# Altium schematic symbol library CUBIC_FC.SchLib: 143 symbols (part 3 of 8)
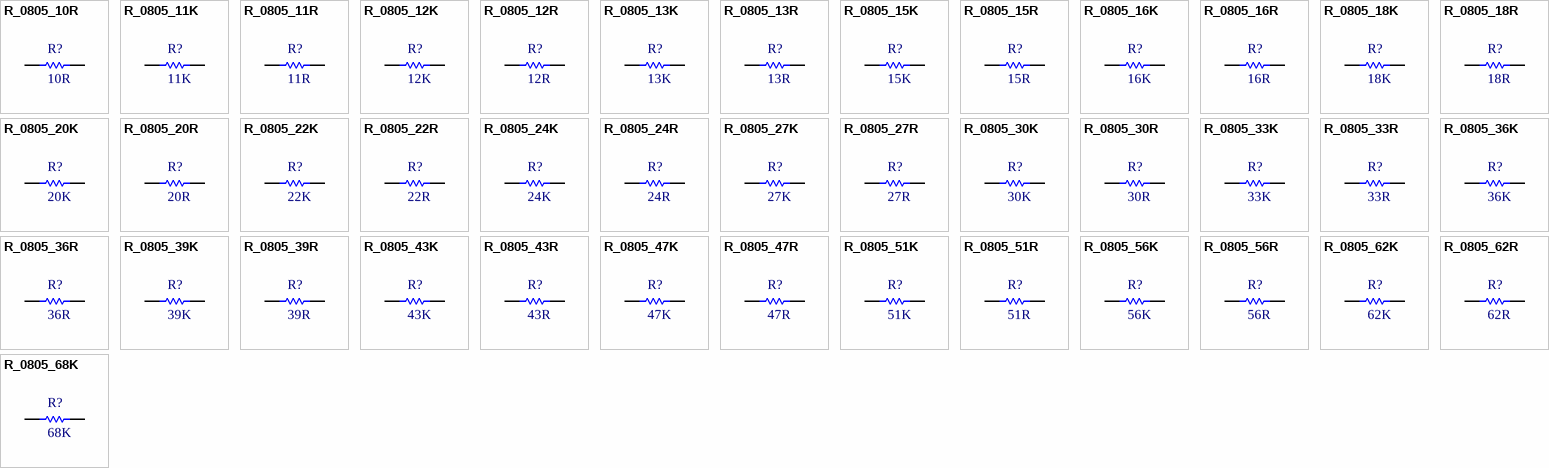
[diagram p5: symbols R_0805_10R to R_0805_68K]

## R_0805_12K
designator R?, comment 12K
Fixed Resistor, Metal Glaze/thick Film, 0.125W, 12000ohm, 150V, 1% +/-Tol, 100ppm/Cel, Surface Mount, 0805; Manufacturer: Panasonic; Manufacturer Part Number: ERJ-6ENF1202V; Power: 125mW; Rated Temperature: 70°C; Value: 12kR; Temperature Coefficient: 100ppm/°C; Package Height: 0.6mm; Package Length: 2mm; Package Width: 1.25mm; Reference Standard: AEC-Q200; Supplier: Digikey; Supplier Part Number: P12.0KCCT-ND; RoHS: Yes; Category: Chip SMD Resistors; Stock: 72058; Pricing: 1=0.11, 10=0.053, 50=0.0344, 100=0.0292, 500=0.02058, 1000=0.01792 (USD); Mounting Technology: Surface Mount; Pins: 2; Package Shape: Rectangular; Case/Package: 0805; Terminal Finish: Nickel; Min Operating Temperature: -55°C; Max Operating Temperature: 155°C; Tolerance: 1%; JESD-609 Code: e3; Resistor Type: FIXED RESISTOR; Construction: Rectangular; Package Style: SMTMeter; Packaging: Tape and Reel; Technology: METAL GLAZE/THICK FILM; Termination: Wraparound; Working Voltage: 150V; Reach SVHC Compliant: Yes; RoHS Compliant: Yes; ComponentLink1URL: https://datasheet.ciiva.com:443/pdfs/VipMasterIC/IC/PANA/PANA-S-A0009889626/PANA-S-A0009889626-1.pdf?src-supplier=IHS+Markit; ComponentLink1Description: https://datasheet.ciiva.com:443/pdfs/VipMasterIC/IC/PANA/PANA-S-A0009889626/PANA-S-A0009889626-1.pdf?src-supplier=IHS+Markit
footprint R_0805 (Chip Resistor, 2-Leads, Body 2.00x1.25mm, IPC Low Density)
pins: 1, 2

## R_0805_12R
designator R?, comment 12R
Fixed Resistor, Metal Glaze/thick Film, 0.125W, 12ohm, 150V, 1% +/-Tol, 100ppm/Cel, Surface Mount, 0805; Manufacturer: Panasonic; Manufacturer Part Number: ERJ-6ENF12R0V; Power: 125mW; Rated Temperature: 70°C; Temperature Coefficient: 100ppm/°C; Package Height: 0.6mm; Package Length: 2mm; Package Width: 1.25mm; Reference Standard: AEC-Q200; Supplier: Digikey; Supplier Part Number: P12.0CCT-ND; RoHS: Yes; Category: Chip SMD Resistors; Stock: 114876; Pricing: 1=0.11, 10=0.053, 50=0.0344, 100=0.0292, 500=0.02058, 1000=0.01792 (USD); Mounting Technology: Surface Mount; Pins: 2; Package Shape: Rectangular; Case/Package: 0805; Terminal Finish: Nickel; Min Operating Temperature: -55°C; Max Operating Temperature: 155°C; Tolerance: 1%; JESD-609 Code: e3; Resistor Type: FIXED RESISTOR; Construction: Rectangular; Package Style: SMTMeter; Packaging: Tape and Reel; Value: 12R; Technology: METAL GLAZE/THICK FILM; Termination: Wraparound; Working Voltage: 150V; Reach SVHC Compliant: Yes; RoHS Compliant: Yes; ComponentLink1URL: https://datasheet.ciiva.com:443/pdfs/VipMasterIC/IC/PANA/PANA-S-A0009889626/PANA-S-A0009889626-1.pdf?src-supplier=IHS+Markit; ComponentLink1Description: https://datasheet.ciiva.com:443/pdfs/VipMasterIC/IC/PANA/PANA-S-A0009889626/PANA-S-A0009889626-1.pdf?src-supplier=IHS+Markit; ComponentLink2URL: https://datasheet.ciiva.com/6075/aoa0000ce2-6075401.pdf?src-supplier=Farnell; ComponentLink2Description: https://datasheet.ciiva.com/6075/aoa0000ce2-6075401.pdf?src-supplier=Farnell; ComponentLink3URL: https://datasheet.ciiva.com/9193/aoa0000ce2-9193674.pdf?src-supplier=Avnet; ComponentLink3Description: https://datasheet.ciiva.com/9193/aoa0000ce2-9193674.pdf?src-supplier=Avnet; ComponentLink4URL: https://datasheet.ciiva.com/22681/1678782-22681193.pdf?src-supplier=Element14; ComponentLink4Description: https://datasheet.ciiva.com/22681/1678782-22681193.pdf?src-supplier=Element14; ComponentLink5URL: https://datasheet.ciiva.com/28667/426256-28667706.pdf?src-supplier=Element14; ComponentLink5Description: https://datasheet.ciiva.com/28667/426256-28667706.pdf?src-supplier=Element14; ComponentLink6URL: https://datasheet.ciiva.com/7891/aoa0000ce2-7891343.pdf?src-supplier=Element14; ComponentLink6Description: https://datasheet.ciiva.com/7891/aoa0000ce2-7891343.pdf?src-supplier=Element14
footprint R_0805 (Chip Resistor, 2-Leads, Body 2.00x1.25mm, IPC Low Density)
pins: 1, 2

## R_0805_13K
designator R?, comment 13K
Fixed Resistor, Metal Glaze/thick Film, 0.125W, 13000ohm, 150V, 1% +/-Tol, 100ppm/Cel, Surface Mount, 0805; Manufacturer: Panasonic; Manufacturer Part Number: ERJ-6ENF1302V; Power: 125mW; Rated Temperature: 70°C; Value: 13kR; Temperature Coefficient: 100ppm/°C; Package Height: 0.6mm; Package Length: 2mm; Package Width: 1.25mm; Reference Standard: AEC-Q200; Supplier: Digikey; Supplier Part Number: P13.0KCCT-ND; RoHS: Yes; Category: Chip SMD Resistors; Stock: 110036; Pricing: 1=0.11, 10=0.053, 50=0.0344, 100=0.0292, 500=0.02058, 1000=0.01792 (USD); Mounting Technology: Surface Mount; Pins: 2; Package Shape: Rectangular; Case/Package: 0805; Terminal Finish: Nickel; Min Operating Temperature: -55°C; Max Operating Temperature: 155°C; Tolerance: 1%; JESD-609 Code: e3; Resistor Type: FIXED RESISTOR; Construction: Rectangular; Package Style: SMTMeter; Packaging: Tape and Reel; Technology: METAL GLAZE/THICK FILM; Termination: Wraparound; Working Voltage: 150V; Reach SVHC Compliant: Yes; RoHS Compliant: Yes; ComponentLink1URL: https://datasheet.ciiva.com:443/pdfs/VipMasterIC/IC/PANA/PANA-S-A0009889626/PANA-S-A0009889626-1.pdf?src-supplier=IHS+Markit; ComponentLink1Description: https://datasheet.ciiva.com:443/pdfs/VipMasterIC/IC/PANA/PANA-S-A0009889626/PANA-S-A0009889626-1.pdf?src-supplier=IHS+Markit; ComponentLink2URL: https://datasheet.ciiva.com/11821/0900766b80f80784-11821523.pdf?src-supplier=Rs; ComponentLink2Description: https://datasheet.ciiva.com/11821/0900766b80f80784-11821523.pdf?src-supplier=Rs; ComponentLink3URL: https://datasheet.ciiva.com/46447/1678782-46447765.pdf?src-supplier=Element14; ComponentLink3Description: https://datasheet.ciiva.com/46447/1678782-46447765.pdf?src-supplier=Element14; ComponentLink4URL: https://datasheet.ciiva.com/30124/aoa0000ce2-30124063.pdf?src-supplier=Onlinecomponents.com; ComponentLink4Description: https://datasheet.ciiva.com/30124/aoa0000ce2-30124063.pdf?src-supplier=Onlinecomponents.com; ComponentLink5URL: https://datasheet.ciiva.com/16774/70260748-16774314.pdf?src-supplier=Allied+Electronics; ComponentLink5Description: https://datasheet.ciiva.com/16774/70260748-16774314.pdf?src-supplier=Allied+Electronics; ComponentLink6URL: https://datasheet.ciiva.com/16777/70260748-16777567.pdf?src-supplier=Allied+Electronics; ComponentLink6Description: https://datasheet.ciiva.com/16777/70260748-16777567.pdf?src-supplier=Allied+Electronics; ComponentLink7URL: https://datasheet.ciiva.com/22681/1678782-22681689.pdf?src-supplier=Element14; ComponentLink7Description: https://datasheet.ciiva.com/22681/1678782-22681689.pdf?src-supplier=Element14
footprint R_0805 (Chip Resistor, 2-Leads, Body 2.00x1.25mm, IPC Low Density)
pins: 1, 2

## R_0805_13R
designator R?, comment 13R
Fixed Resistor, Metal Glaze/thick Film, 0.125W, 130ohm, 150V, 1% +/-Tol, 100ppm/Cel, Surface Mount, 0805; Manufacturer: Panasonic; Manufacturer Part Number: ERJ-6ENF1300V; Power: 125mW; Rated Temperature: 70°C; Value: 130R; Temperature Coefficient: 100ppm/°C; Package Height: 0.6mm; Package Length: 2mm; Package Width: 1.25mm; Reference Standard: AEC-Q200; Supplier: Digikey; Supplier Part Number: P130CCT-ND; RoHS: Yes; Category: Chip SMD Resistors; Stock: 23235; Pricing: 1=0.11, 10=0.053, 50=0.0344, 100=0.0292, 500=0.02058, 1000=0.01792 (USD); Mounting Technology: Surface Mount; Pins: 2; Package Shape: Rectangular; Case/Package: 0805; Terminal Finish: Nickel; Min Operating Temperature: -55°C; Max Operating Temperature: 155°C; Tolerance: 1%; JESD-609 Code: e3; Resistor Type: FIXED RESISTOR; Construction: Rectangular; Package Style: SMTMeter; Packaging: Tape and Reel; Technology: METAL GLAZE/THICK FILM; Termination: Wraparound; Working Voltage: 150V; Reach SVHC Compliant: Yes; RoHS Compliant: Yes; ComponentLink1URL: https://datasheet.ciiva.com:443/pdfs/VipMasterIC/IC/PANA/PANA-S-A0009889626/PANA-S-A0009889626-1.pdf?src-supplier=IHS+Markit; ComponentLink1Description: https://datasheet.ciiva.com:443/pdfs/VipMasterIC/IC/PANA/PANA-S-A0009889626/PANA-S-A0009889626-1.pdf?src-supplier=IHS+Markit; ComponentLink2URL: https://datasheet.ciiva.com/46376/426256-46376990.pdf?src-supplier=Element14; ComponentLink2Description: https://datasheet.ciiva.com/46376/426256-46376990.pdf?src-supplier=Element14; ComponentLink3URL: https://datasheet.ciiva.com/5915/426256-5915335.pdf?src-supplier=Farnell; ComponentLink3Description: https://datasheet.ciiva.com/5915/426256-5915335.pdf?src-supplier=Farnell; ComponentLink4URL: https://datasheet.ciiva.com/28665/1678782-28665420.pdf?src-supplier=Element14; ComponentLink4Description: https://datasheet.ciiva.com/28665/1678782-28665420.pdf?src-supplier=Element14; ComponentLink5URL: https://datasheet.ciiva.com/43460/426256-43460011.pdf?src-supplier=Farnell; ComponentLink5Description: https://datasheet.ciiva.com/43460/426256-43460011.pdf?src-supplier=Farnell; ComponentLink6URL: https://datasheet.ciiva.com/9117/aoa0000ce2-9117421.pdf?src-supplier=Avnet; ComponentLink6Description: https://datasheet.ciiva.com/9117/aoa0000ce2-9117421.pdf?src-supplier=Avnet; ComponentLink7URL: https://datasheet.ciiva.com/16781/70260748-16781621.pdf?src-supplier=Allied+Electronics; ComponentLink7Description: https://datasheet.ciiva.com/16781/70260748-16781621.pdf?src-supplier=Allied+Electronics; ComponentLink8URL: https://datasheet.ciiva.com/30187/aoa0000ce2-30187535.pdf?src-supplier=Onlinecomponents.com; ComponentLink8Description: https://datasheet.ciiva.com/30187/aoa0000ce2-30187535.pdf?src-supplier=Onlinecomponents.com
footprint R_0805 (Chip Resistor, 2-Leads, Body 2.00x1.25mm, IPC Low Density)
pins: 1, 2

## R_0805_15K
designator R?, comment 15K
Fixed Resistor, Metal Glaze/thick Film, 0.125W, 15000ohm, 150V, 1% +/-Tol, 100ppm/Cel, Surface Mount, 0805; Manufacturer: Panasonic; Manufacturer Part Number: ERJ-6ENF1502V; Power: 125mW; Rated Temperature: 70°C; Value: 15kR; Temperature Coefficient: 100ppm/°C; Package Height: 0.6mm; Package Length: 2mm; Package Width: 1.25mm; Reference Standard: AEC-Q200; Supplier: Digikey; Supplier Part Number: P15.0KCCT-ND; RoHS: Yes; Category: Chip SMD Resistors; Stock: 202482; Pricing: 1=0.11, 10=0.053, 50=0.0344, 100=0.0292, 500=0.02058, 1000=0.01792 (USD); Mounting Technology: Surface Mount; Pins: 2; Package Shape: Rectangular; Case/Package: 0805; Terminal Finish: Nickel; Min Operating Temperature: -55°C; Max Operating Temperature: 155°C; Tolerance: 1%; JESD-609 Code: e3; Resistor Type: FIXED RESISTOR; Construction: Rectangular; Package Style: SMTMeter; Packaging: Tape and Reel; Technology: METAL GLAZE/THICK FILM; Termination: Wraparound; Working Voltage: 150V; Reach SVHC Compliant: Yes; RoHS Compliant: Yes; ComponentLink1URL: https://datasheet.ciiva.com:443/pdfs/VipMasterIC/IC/PANA/PANA-S-A0009889626/PANA-S-A0009889626-1.pdf?src-supplier=IHS+Markit; ComponentLink1Description: https://datasheet.ciiva.com:443/pdfs/VipMasterIC/IC/PANA/PANA-S-A0009889626/PANA-S-A0009889626-1.pdf?src-supplier=IHS+Markit; ComponentLink2URL: https://datasheet.ciiva.com/11821/0900766b80f80784-11821538.pdf?src-supplier=Rs; ComponentLink2Description: https://datasheet.ciiva.com/11821/0900766b80f80784-11821538.pdf?src-supplier=Rs; ComponentLink3URL: https://datasheet.ciiva.com/6138/426256-6138184.pdf?src-supplier=Farnell; ComponentLink3Description: https://datasheet.ciiva.com/6138/426256-6138184.pdf?src-supplier=Farnell; ComponentLink4URL: https://datasheet.ciiva.com/27055/1989076-27055738.pdf?src-supplier=Jameco; ComponentLink4Description: https://datasheet.ciiva.com/27055/1989076-27055738.pdf?src-supplier=Jameco; ComponentLink5URL: https://datasheet.ciiva.com/16426/aoa0000ce2-16426213.pdf?src-supplier=Future+Electronics; ComponentLink5Description: https://datasheet.ciiva.com/16426/aoa0000ce2-16426213.pdf?src-supplier=Future+Electronics; ComponentLink6URL: https://datasheet.ciiva.com/16773/70260748-16773989.pdf?src-supplier=Allied+Electronics; ComponentLink6Description: https://datasheet.ciiva.com/16773/70260748-16773989.pdf?src-supplier=Allied+Electronics; ComponentLink7URL: https://datasheet.ciiva.com/22687/1678782-22687078.pdf?src-supplier=Element14; ComponentLink7Description: https://datasheet.ciiva.com/22687/1678782-22687078.pdf?src-supplier=Element14; ComponentLink8URL: https://datasheet.ciiva.com/8079/426256-8079611.pdf?src-supplier=Element14; ComponentLink8Description: https://datasheet.ciiva.com/8079/426256-8079611.pdf?src-supplier=Element14; ComponentLink9URL: https://datasheet.ciiva.com/22668/1678782-22668330.pdf?src-supplier=Element14; ComponentLink9Description: https://datasheet.ciiva.com/22668/1678782-22668330.pdf?src-supplier=Element14
footprint R_0805 (Chip Resistor, 2-Leads, Body 2.00x1.25mm, IPC Low Density)
pins: 1, 2

## R_0805_15R
designator R?, comment 15R
Fixed Resistor, Metal Glaze/thick Film, 0.125W, 15ohm, 150V, 1% +/-Tol, 100ppm/Cel, Surface Mount, 0805; Manufacturer: Panasonic; Manufacturer Part Number: ERJ-6ENF15R0V; Power: 125mW; Rated Temperature: 70°C; Temperature Coefficient: 100ppm/°C; Package Height: 0.6mm; Package Length: 2mm; Package Width: 1.25mm; Reference Standard: AEC-Q200; Supplier: Digikey; Supplier Part Number: P15.0CCT-ND; RoHS: Yes; Category: Chip SMD Resistors; Stock: 150596; Pricing: 1=0.11, 10=0.053, 50=0.0344, 100=0.0292, 500=0.02058, 1000=0.01792 (USD); Mounting Technology: Surface Mount; Pins: 2; Package Shape: Rectangular; Case/Package: 0805; Terminal Finish: Nickel; Min Operating Temperature: -55°C; Max Operating Temperature: 155°C; Tolerance: 1%; JESD-609 Code: e3; Resistor Type: FIXED RESISTOR; Construction: Rectangular; Package Style: SMTMeter; Packaging: Tape and Reel; Value: 15R; Technology: METAL GLAZE/THICK FILM; Termination: Wraparound; Working Voltage: 150V; Reach SVHC Compliant: Yes; RoHS Compliant: Yes; ComponentLink1URL: https://datasheet.ciiva.com:443/pdfs/VipMasterIC/IC/PANA/PANA-S-A0009889626/PANA-S-A0009889626-1.pdf?src-supplier=IHS+Markit; ComponentLink1Description: https://datasheet.ciiva.com:443/pdfs/VipMasterIC/IC/PANA/PANA-S-A0009889626/PANA-S-A0009889626-1.pdf?src-supplier=IHS+Markit; ComponentLink2URL: https://datasheet.ciiva.com/11821/0900766b80f80784-11821555.pdf?src-supplier=Rs; ComponentLink2Description: https://datasheet.ciiva.com/11821/0900766b80f80784-11821555.pdf?src-supplier=Rs; ComponentLink3URL: https://datasheet.ciiva.com/7836/aoa0000ce2-7836534.pdf?src-supplier=Element14; ComponentLink3Description: https://datasheet.ciiva.com/7836/aoa0000ce2-7836534.pdf?src-supplier=Element14; ComponentLink4URL: https://datasheet.ciiva.com/5915/aoa0000ce2-5915337.pdf?src-supplier=Farnell; ComponentLink4Description: https://datasheet.ciiva.com/5915/aoa0000ce2-5915337.pdf?src-supplier=Farnell; ComponentLink5URL: https://datasheet.ciiva.com/22682/1678782-22682199.pdf?src-supplier=Element14; ComponentLink5Description: https://datasheet.ciiva.com/22682/1678782-22682199.pdf?src-supplier=Element14; ComponentLink6URL: https://datasheet.ciiva.com/22739/426256-22739800.pdf?src-supplier=Element14; ComponentLink6Description: https://datasheet.ciiva.com/22739/426256-22739800.pdf?src-supplier=Element14; ComponentLink7URL: https://datasheet.ciiva.com/9193/aoa0000ce2-9193038.pdf?src-supplier=Avnet; ComponentLink7Description: https://datasheet.ciiva.com/9193/aoa0000ce2-9193038.pdf?src-supplier=Avnet; ComponentLink8URL: https://datasheet.ciiva.com/24160/aoa0000ce2-24160478.pdf?src-supplier=Mouser; ComponentLink8Description: https://datasheet.ciiva.com/24160/aoa0000ce2-24160478.pdf?src-supplier=Mouser; ComponentLink9URL: https://datasheet.ciiva.com/16759/70260748-16759183.pdf?src-supplier=Allied+Electronics; ComponentLink9Description: https://datasheet.ciiva.com/16759/70260748-16759183.pdf?src-supplier=Allied+Electronics; ComponentLink10URL: https://datasheet.ciiva.com/16760/70260748-16760269.pdf?src-supplier=Allied+Electronics; ComponentLink10Description: https://datasheet.ciiva.com/16760/70260748-16760269.pdf?src-supplier=Allied+Electronics; ComponentLink11URL: https://datasheet.ciiva.com/15159/getdatasheetpartid-32750-15159325.pdf?src-supplier=Verical; ComponentLink11Description: https://datasheet.ciiva.com/15159/getdatasheetpartid-32750-15159325.pdf?src-supplier=Verical
footprint R_0805 (Chip Resistor, 2-Leads, Body 2.00x1.25mm, IPC Low Density)
pins: 1, 2

## R_0805_16K
designator R?, comment 16K
Fixed Resistor, Metal Glaze/thick Film, 0.125W, 16000ohm, 150V, 1% +/-Tol, 100ppm/Cel, Surface Mount, 0805; Manufacturer: Panasonic; Manufacturer Part Number: ERJ-6ENF1602V; Power: 125mW; Rated Temperature: 70°C; Value: 16kR; Temperature Coefficient: 100ppm/°C; Package Height: 0.6mm; Package Length: 2mm; Package Width: 1.25mm; Reference Standard: AEC-Q200; Supplier: Digikey; Supplier Part Number: P16.0KCCT-ND; RoHS: Yes; Category: Chip SMD Resistors; Stock: 63958; Pricing: 1=0.11, 10=0.053, 50=0.0344, 100=0.0292, 500=0.02058, 1000=0.01792 (USD); Mounting Technology: Surface Mount; Pins: 2; Package Shape: Rectangular; Case/Package: 0805; Terminal Finish: Nickel; Min Operating Temperature: -55°C; Max Operating Temperature: 155°C; Tolerance: 1%; JESD-609 Code: e3; Resistor Type: FIXED RESISTOR; Construction: Rectangular; Package Style: SMTMeter; Packaging: Tape and Reel; Technology: METAL GLAZE/THICK FILM; Termination: Wraparound; Working Voltage: 150V; Reach SVHC Compliant: Yes; RoHS Compliant: Yes; ComponentLink1URL: https://datasheet.ciiva.com:443/pdfs/VipMasterIC/IC/PANA/PANA-S-A0009889626/PANA-S-A0009889626-1.pdf?src-supplier=IHS+Markit; ComponentLink1Description: https://datasheet.ciiva.com:443/pdfs/VipMasterIC/IC/PANA/PANA-S-A0009889626/PANA-S-A0009889626-1.pdf?src-supplier=IHS+Markit; ComponentLink2URL: https://datasheet.ciiva.com/46440/1678782-46440381.pdf?src-supplier=Element14; ComponentLink2Description: https://datasheet.ciiva.com/46440/1678782-46440381.pdf?src-supplier=Element14; ComponentLink3URL: https://datasheet.ciiva.com/24026/aoa0000ce2-24026223.pdf?src-supplier=Mouser; ComponentLink3Description: https://datasheet.ciiva.com/24026/aoa0000ce2-24026223.pdf?src-supplier=Mouser; ComponentLink4URL: https://datasheet.ciiva.com/16780/70260748-16780439.pdf?src-supplier=Allied+Electronics; ComponentLink4Description: https://datasheet.ciiva.com/16780/70260748-16780439.pdf?src-supplier=Allied+Electronics; ComponentLink5URL: https://datasheet.ciiva.com/16780/70260748-16780728.pdf?src-supplier=Allied+Electronics; ComponentLink5Description: https://datasheet.ciiva.com/16780/70260748-16780728.pdf?src-supplier=Allied+Electronics; ComponentLink6URL: https://datasheet.ciiva.com/22681/1678782-22681690.pdf?src-supplier=Element14; ComponentLink6Description: https://datasheet.ciiva.com/22681/1678782-22681690.pdf?src-supplier=Element14
footprint R_0805 (Chip Resistor, 2-Leads, Body 2.00x1.25mm, IPC Low Density)
pins: 1, 2

## R_0805_16R
designator R?, comment 16R
Fixed Resistor, Metal Glaze/thick Film, 0.125W, 160ohm, 150V, 1% +/-Tol, 100ppm/Cel, Surface Mount, 0805; Manufacturer: Panasonic; Manufacturer Part Number: ERJ-6ENF1600V; Power: 125mW; Rated Temperature: 70°C; Value: 160R; Temperature Coefficient: 100ppm/°C; Package Height: 0.6mm; Package Length: 2mm; Package Width: 1.25mm; Reference Standard: AEC-Q200; Supplier: Digikey; Supplier Part Number: P160CCT-ND; RoHS: Yes; Category: Chip SMD Resistors; Stock: 83504; Pricing: 1=0.11, 10=0.053, 50=0.0344, 100=0.0292, 500=0.02058, 1000=0.01792 (USD); Mounting Technology: Surface Mount; Pins: 2; Package Shape: Rectangular; Case/Package: 0805; Terminal Finish: Nickel; Min Operating Temperature: -55°C; Max Operating Temperature: 155°C; Tolerance: 1%; JESD-609 Code: e3; Resistor Type: FIXED RESISTOR; Construction: Rectangular; Package Style: SMTMeter; Packaging: Tape and Reel; Technology: METAL GLAZE/THICK FILM; Termination: Wraparound; Working Voltage: 150V; Reach SVHC Compliant: Yes; RoHS Compliant: Yes; ComponentLink1URL: https://datasheet.ciiva.com:443/pdfs/VipMasterIC/IC/PANA/PANA-S-A0009889626/PANA-S-A0009889626-1.pdf?src-supplier=IHS+Markit; ComponentLink1Description: https://datasheet.ciiva.com:443/pdfs/VipMasterIC/IC/PANA/PANA-S-A0009889626/PANA-S-A0009889626-1.pdf?src-supplier=IHS+Markit; ComponentLink2URL: https://datasheet.ciiva.com/11821/0900766b80f80784-11821554.pdf?src-supplier=Rs; ComponentLink2Description: https://datasheet.ciiva.com/11821/0900766b80f80784-11821554.pdf?src-supplier=Rs; ComponentLink3URL: https://datasheet.ciiva.com/22739/1678782-22739487.pdf?src-supplier=Element14; ComponentLink3Description: https://datasheet.ciiva.com/22739/1678782-22739487.pdf?src-supplier=Element14; ComponentLink4URL: https://datasheet.ciiva.com/46373/1678782-46373482.pdf?src-supplier=Element14; ComponentLink4Description: https://datasheet.ciiva.com/46373/1678782-46373482.pdf?src-supplier=Element14; ComponentLink5URL: https://datasheet.ciiva.com/46373/1678782-46373483.pdf?src-supplier=Element14; ComponentLink5Description: https://datasheet.ciiva.com/46373/1678782-46373483.pdf?src-supplier=Element14; ComponentLink6URL: https://datasheet.ciiva.com/24165/aoa0000ce2-24165414.pdf?src-supplier=Mouser; ComponentLink6Description: https://datasheet.ciiva.com/24165/aoa0000ce2-24165414.pdf?src-supplier=Mouser; ComponentLink7URL: https://datasheet.ciiva.com/9185/aoa0000ce2-9185326.pdf?src-supplier=Avnet; ComponentLink7Description: https://datasheet.ciiva.com/9185/aoa0000ce2-9185326.pdf?src-supplier=Avnet; ComponentLink8URL: https://datasheet.ciiva.com/30235/aoa0000ce2-30235786.pdf?src-supplier=Onlinecomponents.com; ComponentLink8Description: https://datasheet.ciiva.com/30235/aoa0000ce2-30235786.pdf?src-supplier=Onlinecomponents.com
footprint R_0805 (Chip Resistor, 2-Leads, Body 2.00x1.25mm, IPC Low Density)
pins: 1, 2

## R_0805_18K
designator R?, comment 18K
Fixed Resistor, Metal Glaze/thick Film, 0.125W, 18000ohm, 150V, 1% +/-Tol, 100ppm/Cel, Surface Mount, 0805; Manufacturer: Panasonic; Manufacturer Part Number: ERJ-6ENF1802V; Power: 125mW; Rated Temperature: 70°C; Value: 18kR; Temperature Coefficient: 100ppm/°C; Package Height: 0.6mm; Package Length: 2mm; Package Width: 1.25mm; Reference Standard: AEC-Q200; Supplier: Digikey; Supplier Part Number: P18.0KCCT-ND; RoHS: Yes; Category: Chip SMD Resistors; Stock: 83803; Pricing: 1=0.11, 10=0.053, 50=0.0344, 100=0.0292, 500=0.02058, 1000=0.01792 (USD); Mounting Technology: Surface Mount; Pins: 2; Package Shape: Rectangular; Case/Package: 0805; Terminal Finish: Nickel; Min Operating Temperature: -55°C; Max Operating Temperature: 155°C; Tolerance: 1%; JESD-609 Code: e3; Resistor Type: FIXED RESISTOR; Construction: Rectangular; Package Style: SMTMeter; Packaging: Tape and Reel; Technology: METAL GLAZE/THICK FILM; Termination: Wraparound; Working Voltage: 150V; Reach SVHC Compliant: Yes; RoHS Compliant: Yes; ComponentLink1URL: https://datasheet.ciiva.com:443/pdfs/VipMasterIC/IC/PANA/PANA-S-A0009889626/PANA-S-A0009889626-1.pdf?src-supplier=IHS+Markit; ComponentLink1Description: https://datasheet.ciiva.com:443/pdfs/VipMasterIC/IC/PANA/PANA-S-A0009889626/PANA-S-A0009889626-1.pdf?src-supplier=IHS+Markit; ComponentLink2URL: https://datasheet.ciiva.com/11821/0900766b80f80784-11821548.pdf?src-supplier=Rs; ComponentLink2Description: https://datasheet.ciiva.com/11821/0900766b80f80784-11821548.pdf?src-supplier=Rs; ComponentLink3URL: https://datasheet.ciiva.com/5860/426256-5860694.pdf?src-supplier=Farnell; ComponentLink3Description: https://datasheet.ciiva.com/5860/426256-5860694.pdf?src-supplier=Farnell; ComponentLink4URL: https://datasheet.ciiva.com/9192/aoa0000ce2-9192556.pdf?src-supplier=Avnet; ComponentLink4Description: https://datasheet.ciiva.com/9192/aoa0000ce2-9192556.pdf?src-supplier=Avnet; ComponentLink5URL: https://datasheet.ciiva.com/22687/1678782-22687421.pdf?src-supplier=Element14; ComponentLink5Description: https://datasheet.ciiva.com/22687/1678782-22687421.pdf?src-supplier=Element14; ComponentLink6URL: https://datasheet.ciiva.com/24160/aoa0000ce2-24160333.pdf?src-supplier=Mouser; ComponentLink6Description: https://datasheet.ciiva.com/24160/aoa0000ce2-24160333.pdf?src-supplier=Mouser; ComponentLink7URL: https://datasheet.ciiva.com/22684/1678782-22684796.pdf?src-supplier=Element14; ComponentLink7Description: https://datasheet.ciiva.com/22684/1678782-22684796.pdf?src-supplier=Element14; ComponentLink8URL: https://datasheet.ciiva.com/46376/1678782-46376191.pdf?src-supplier=Element14; ComponentLink8Description: https://datasheet.ciiva.com/46376/1678782-46376191.pdf?src-supplier=Element14; ComponentLink9URL: https://datasheet.ciiva.com/7944/426256-7944951.pdf?src-supplier=Element14; ComponentLink9Description: https://datasheet.ciiva.com/7944/426256-7944951.pdf?src-supplier=Element14; ComponentLink10URL: https://datasheet.ciiva.com/16769/70260748-16769814.pdf?src-supplier=Allied+Electronics; ComponentLink10Description: https://datasheet.ciiva.com/16769/70260748-16769814.pdf?src-supplier=Allied+Electronics
footprint R_0805 (Chip Resistor, 2-Leads, Body 2.00x1.25mm, IPC Low Density)
pins: 1, 2

## R_0805_18R
designator R?, comment 18R
Fixed Resistor, Metal Glaze/thick Film, 0.125W, 18ohm, 150V, 1% +/-Tol, 100ppm/Cel, Surface Mount, 0805; Manufacturer: Panasonic; Manufacturer Part Number: ERJ-6ENF18R0V; Power: 125mW; Rated Temperature: 70°C; Temperature Coefficient: 100ppm/°C; Package Height: 0.6mm; Package Length: 2mm; Package Width: 1.25mm; Reference Standard: AEC-Q200; Supplier: Digikey; Supplier Part Number: P18.0CCT-ND; RoHS: Yes; Category: Chip SMD Resistors; Stock: 102560; Pricing: 1=0.11, 10=0.053, 50=0.0344, 100=0.0292, 500=0.02058, 1000=0.01792 (USD); Mounting Technology: Surface Mount; Pins: 2; Package Shape: Rectangular; Case/Package: 0805; Terminal Finish: Nickel; Min Operating Temperature: -55°C; Max Operating Temperature: 155°C; Tolerance: 1%; JESD-609 Code: e3; Resistor Type: FIXED RESISTOR; Construction: Rectangular; Package Style: SMTMeter; Packaging: Tape and Reel; Value: 18R; Technology: METAL GLAZE/THICK FILM; Termination: Wraparound; Working Voltage: 150V; Reach SVHC Compliant: Yes; RoHS Compliant: Yes; ComponentLink1URL: https://datasheet.ciiva.com:443/pdfs/VipMasterIC/IC/PANA/PANA-S-A0009889626/PANA-S-A0009889626-1.pdf?src-supplier=IHS+Markit; ComponentLink1Description: https://datasheet.ciiva.com:443/pdfs/VipMasterIC/IC/PANA/PANA-S-A0009889626/PANA-S-A0009889626-1.pdf?src-supplier=IHS+Markit; ComponentLink2URL: https://datasheet.ciiva.com/11821/0900766b80f80784-11821547.pdf?src-supplier=Rs; ComponentLink2Description: https://datasheet.ciiva.com/11821/0900766b80f80784-11821547.pdf?src-supplier=Rs; ComponentLink3URL: https://datasheet.ciiva.com/6075/aoa0000ce2-6075404.pdf?src-supplier=Farnell; ComponentLink3Description: https://datasheet.ciiva.com/6075/aoa0000ce2-6075404.pdf?src-supplier=Farnell; ComponentLink4URL: https://datasheet.ciiva.com/46441/1678782-46441402.pdf?src-supplier=Element14; ComponentLink4Description: https://datasheet.ciiva.com/46441/1678782-46441402.pdf?src-supplier=Element14; ComponentLink5URL: https://datasheet.ciiva.com/9192/aoa0000ce2-9192463.pdf?src-supplier=Avnet; ComponentLink5Description: https://datasheet.ciiva.com/9192/aoa0000ce2-9192463.pdf?src-supplier=Avnet; ComponentLink6URL: https://datasheet.ciiva.com/24069/aoa0000ce2-24069564.pdf?src-supplier=Mouser; ComponentLink6Description: https://datasheet.ciiva.com/24069/aoa0000ce2-24069564.pdf?src-supplier=Mouser; ComponentLink7URL: https://datasheet.ciiva.com/22681/1678782-22681195.pdf?src-supplier=Element14; ComponentLink7Description: https://datasheet.ciiva.com/22681/1678782-22681195.pdf?src-supplier=Element14; ComponentLink8URL: https://datasheet.ciiva.com/22738/426256-22738005.pdf?src-supplier=Element14; ComponentLink8Description: https://datasheet.ciiva.com/22738/426256-22738005.pdf?src-supplier=Element14
footprint R_0805 (Chip Resistor, 2-Leads, Body 2.00x1.25mm, IPC Low Density)
pins: 1, 2

## R_0805_20K
designator R?, comment 20K
Fixed Resistor, Metal Glaze/thick Film, 0.125W, 20000ohm, 150V, 1% +/-Tol, 100ppm/Cel, Surface Mount, 0805; Manufacturer: Panasonic; Manufacturer Part Number: ERJ-6ENF2002V; Power: 125mW; Rated Temperature: 70°C; Value: 20kR; Temperature Coefficient: 100ppm/°C; Package Height: 0.6mm; Package Length: 2mm; Package Width: 1.25mm; Reference Standard: AEC-Q200; Supplier: Digikey; Supplier Part Number: P20.0KCCT-ND; RoHS: Yes; Category: Chip SMD Resistors; Stock: 311840; Pricing: 1=0.11, 10=0.053, 50=0.0344, 100=0.0292, 500=0.02058, 1000=0.01792 (USD); Mounting Technology: Surface Mount; Pins: 2; Package Shape: Rectangular; Case/Package: 0805; Terminal Finish: Nickel; Min Operating Temperature: -55°C; Max Operating Temperature: 155°C; Tolerance: 1%; JESD-609 Code: e3; Resistor Type: FIXED RESISTOR; Construction: Rectangular; Package Style: SMTMeter; Packaging: Tape and Reel; Technology: METAL GLAZE/THICK FILM; Termination: Wraparound; Working Voltage: 150V; Reach SVHC Compliant: Yes; RoHS Compliant: Yes; ComponentLink1URL: https://datasheet.ciiva.com:443/pdfs/VipMasterIC/IC/PANA/PANA-S-A0009889626/PANA-S-A0009889626-1.pdf?src-supplier=IHS+Markit; ComponentLink1Description: https://datasheet.ciiva.com:443/pdfs/VipMasterIC/IC/PANA/PANA-S-A0009889626/PANA-S-A0009889626-1.pdf?src-supplier=IHS+Markit
footprint R_0805 (Chip Resistor, 2-Leads, Body 2.00x1.25mm, IPC Low Density)
pins: 1, 2

## R_0805_20R
designator R?, comment 20R
Fixed Resistor, Metal Glaze/thick Film, 0.125W, 20ohm, 150V, 1% +/-Tol, 100ppm/Cel, Surface Mount, 0805; Manufacturer: Panasonic; Manufacturer Part Number: ERJ-6ENF20R0V; Power: 125mW; Rated Temperature: 70°C; Temperature Coefficient: 100ppm/°C; Package Height: 0.6mm; Package Length: 2mm; Package Width: 1.25mm; Reference Standard: AEC-Q200; Supplier: Digikey; Supplier Part Number: P20.0CCT-ND; RoHS: Yes; Category: Chip SMD Resistors; Stock: 167769; Pricing: 1=0.11, 10=0.053, 50=0.0344, 100=0.0292, 500=0.02058, 1000=0.01792 (USD); Mounting Technology: Surface Mount; Pins: 2; Package Shape: Rectangular; Case/Package: 0805; Terminal Finish: Nickel; Min Operating Temperature: -55°C; Max Operating Temperature: 155°C; Tolerance: 1%; JESD-609 Code: e3; Resistor Type: FIXED RESISTOR; Construction: Rectangular; Package Style: SMTMeter; Packaging: Tape and Reel; Value: 20R; Technology: METAL GLAZE/THICK FILM; Termination: Wraparound; Working Voltage: 150V; Reach SVHC Compliant: Yes; RoHS Compliant: Yes; ComponentLink1URL: https://datasheet.ciiva.com:443/pdfs/VipMasterIC/IC/PANA/PANA-S-A0009889626/PANA-S-A0009889626-1.pdf?src-supplier=IHS+Markit; ComponentLink1Description: https://datasheet.ciiva.com:443/pdfs/VipMasterIC/IC/PANA/PANA-S-A0009889626/PANA-S-A0009889626-1.pdf?src-supplier=IHS+Markit; ComponentLink2URL: https://datasheet.ciiva.com/11821/0900766b80f80784-11821563.pdf?src-supplier=Rs; ComponentLink2Description: https://datasheet.ciiva.com/11821/0900766b80f80784-11821563.pdf?src-supplier=Rs; ComponentLink3URL: https://datasheet.ciiva.com/9117/aoa0000ce2-9117448.pdf?src-supplier=Avnet; ComponentLink3Description: https://datasheet.ciiva.com/9117/aoa0000ce2-9117448.pdf?src-supplier=Avnet; ComponentLink4URL: https://datasheet.ciiva.com/24160/aoa0000ce2-24160311.pdf?src-supplier=Mouser; ComponentLink4Description: https://datasheet.ciiva.com/24160/aoa0000ce2-24160311.pdf?src-supplier=Mouser; ComponentLink5URL: https://datasheet.ciiva.com/28593/1678782-28593225.pdf?src-supplier=Element14; ComponentLink5Description: https://datasheet.ciiva.com/28593/1678782-28593225.pdf?src-supplier=Element14; ComponentLink6URL: https://datasheet.ciiva.com/28665/1678782-28665423.pdf?src-supplier=Element14; ComponentLink6Description: https://datasheet.ciiva.com/28665/1678782-28665423.pdf?src-supplier=Element14; ComponentLink7URL: https://datasheet.ciiva.com/46374/426256-46374072.pdf?src-supplier=Element14; ComponentLink7Description: https://datasheet.ciiva.com/46374/426256-46374072.pdf?src-supplier=Element14; ComponentLink8URL: https://datasheet.ciiva.com/16763/70260748-16763991.pdf?src-supplier=Allied+Electronics; ComponentLink8Description: https://datasheet.ciiva.com/16763/70260748-16763991.pdf?src-supplier=Allied+Electronics; ComponentLink9URL: https://datasheet.ciiva.com/16780/70260748-16780237.pdf?src-supplier=Allied+Electronics; ComponentLink9Description: https://datasheet.ciiva.com/16780/70260748-16780237.pdf?src-supplier=Allied+Electronics
footprint R_0805 (Chip Resistor, 2-Leads, Body 2.00x1.25mm, IPC Low Density)
pins: 1, 2

## R_0805_22K
designator R?, comment 22K
Fixed Resistor, Metal Glaze/thick Film, 0.125W, 22000ohm, 150V, 1% +/-Tol, 100ppm/Cel, Surface Mount, 0805; Manufacturer: Panasonic; Manufacturer Part Number: ERJ-6ENF2202V; Power: 125mW; Rated Temperature: 70°C; Value: 22kR; Temperature Coefficient: 100ppm/°C; Package Height: 0.6mm; Package Length: 2mm; Package Width: 1.25mm; Reference Standard: AEC-Q200; Supplier: Digikey; Supplier Part Number: P22.0KCCT-ND; RoHS: Yes; Category: Chip SMD Resistors; Stock: 59080; Pricing: 1=0.11, 10=0.053, 50=0.0344, 100=0.0292, 500=0.02058, 1000=0.01792 (USD); Mounting Technology: Surface Mount; Pins: 2; Package Shape: Rectangular; Case/Package: 0805; Terminal Finish: Nickel; Min Operating Temperature: -55°C; Max Operating Temperature: 155°C; Tolerance: 1%; JESD-609 Code: e3; Resistor Type: FIXED RESISTOR; Construction: Rectangular; Package Style: SMTMeter; Packaging: Tape and Reel; Technology: METAL GLAZE/THICK FILM; Termination: Wraparound; Working Voltage: 150V; Reach SVHC Compliant: Yes; RoHS Compliant: Yes; ComponentLink1URL: https://datasheet.ciiva.com:443/pdfs/VipMasterIC/IC/PANA/PANA-S-A0009889626/PANA-S-A0009889626-1.pdf?src-supplier=IHS+Markit; ComponentLink1Description: https://datasheet.ciiva.com:443/pdfs/VipMasterIC/IC/PANA/PANA-S-A0009889626/PANA-S-A0009889626-1.pdf?src-supplier=IHS+Markit; ComponentLink2URL: https://datasheet.ciiva.com/11821/0900766b80f80784-11821559.pdf?src-supplier=Rs; ComponentLink2Description: https://datasheet.ciiva.com/11821/0900766b80f80784-11821559.pdf?src-supplier=Rs; ComponentLink3URL: https://datasheet.ciiva.com/7802/426256-7802439.pdf?src-supplier=Element14; ComponentLink3Description: https://datasheet.ciiva.com/7802/426256-7802439.pdf?src-supplier=Element14; ComponentLink4URL: https://datasheet.ciiva.com/6138/426256-6138190.pdf?src-supplier=Farnell; ComponentLink4Description: https://datasheet.ciiva.com/6138/426256-6138190.pdf?src-supplier=Farnell; ComponentLink5URL: https://datasheet.ciiva.com/22687/1678782-22687079.pdf?src-supplier=Element14; ComponentLink5Description: https://datasheet.ciiva.com/22687/1678782-22687079.pdf?src-supplier=Element14; ComponentLink6URL: https://datasheet.ciiva.com/46419/1678782-46419998.pdf?src-supplier=Element14; ComponentLink6Description: https://datasheet.ciiva.com/46419/1678782-46419998.pdf?src-supplier=Element14; ComponentLink7URL: https://datasheet.ciiva.com/22668/1678782-22668332.pdf?src-supplier=Element14; ComponentLink7Description: https://datasheet.ciiva.com/22668/1678782-22668332.pdf?src-supplier=Element14; ComponentLink8URL: https://datasheet.ciiva.com/24070/aoa0000ce2-24070245.pdf?src-supplier=Mouser; ComponentLink8Description: https://datasheet.ciiva.com/24070/aoa0000ce2-24070245.pdf?src-supplier=Mouser; ComponentLink9URL: https://datasheet.ciiva.com/30139/aoa0000ce2-30139797.pdf?src-supplier=Onlinecomponents.com; ComponentLink9Description: https://datasheet.ciiva.com/30139/aoa0000ce2-30139797.pdf?src-supplier=Onlinecomponents.com; ComponentLink10URL: https://datasheet.ciiva.com/16787/70260748-16787961.pdf?src-supplier=Allied+Electronics; ComponentLink10Description: https://datasheet.ciiva.com/16787/70260748-16787961.pdf?src-supplier=Allied+Electronics
footprint R_0805 (Chip Resistor, 2-Leads, Body 2.00x1.25mm, IPC Low Density)
pins: 1, 2

## R_0805_22R
designator R?, comment 22R
Fixed Resistor, Metal Glaze/thick Film, 0.125W, 22ohm, 150V, 1% +/-Tol, 100ppm/Cel, Surface Mount, 0805; Manufacturer: Panasonic; Manufacturer Part Number: ERJ-6ENF22R0V; Power: 125mW; Rated Temperature: 70°C; Temperature Coefficient: 100ppm/°C; Package Height: 0.6mm; Package Length: 2mm; Package Width: 1.25mm; Reference Standard: AEC-Q200; Supplier: Digikey; Supplier Part Number: P22.0CCT-ND; RoHS: Yes; Category: Chip SMD Resistors; Stock: 164863; Pricing: 1=0.11, 10=0.053, 50=0.0344, 100=0.0292, 500=0.02058, 1000=0.01792 (USD); Mounting Technology: Surface Mount; Pins: 2; Package Shape: Rectangular; Case/Package: 0805; Terminal Finish: Nickel; Min Operating Temperature: -55°C; Max Operating Temperature: 155°C; Tolerance: 1%; JESD-609 Code: e3; Resistor Type: FIXED RESISTOR; Construction: Rectangular; Package Style: SMTMeter; Packaging: Tape and Reel; Value: 22R; Technology: METAL GLAZE/THICK FILM; Termination: Wraparound; Working Voltage: 150V; Reach SVHC Compliant: Yes; RoHS Compliant: Yes; ComponentLink1URL: https://datasheet.ciiva.com:443/pdfs/VipMasterIC/IC/PANA/PANA-S-A0009889626/PANA-S-A0009889626-1.pdf?src-supplier=IHS+Markit; ComponentLink1Description: https://datasheet.ciiva.com:443/pdfs/VipMasterIC/IC/PANA/PANA-S-A0009889626/PANA-S-A0009889626-1.pdf?src-supplier=IHS+Markit; ComponentLink2URL: https://datasheet.ciiva.com/11821/0900766b80f80784-11821596.pdf?src-supplier=Rs; ComponentLink2Description: https://datasheet.ciiva.com/11821/0900766b80f80784-11821596.pdf?src-supplier=Rs; ComponentLink3URL: https://datasheet.ciiva.com/46381/1678782-46381545.pdf?src-supplier=Element14; ComponentLink3Description: https://datasheet.ciiva.com/46381/1678782-46381545.pdf?src-supplier=Element14; ComponentLink4URL: https://datasheet.ciiva.com/46381/1678782-46381546.pdf?src-supplier=Element14; ComponentLink4Description: https://datasheet.ciiva.com/46381/1678782-46381546.pdf?src-supplier=Element14; ComponentLink5URL: https://datasheet.ciiva.com/24071/aoa0000ce2-24071401.pdf?src-supplier=Mouser; ComponentLink5Description: https://datasheet.ciiva.com/24071/aoa0000ce2-24071401.pdf?src-supplier=Mouser; ComponentLink6URL: https://datasheet.ciiva.com/5868/aoa0000ce2-5868188.pdf?src-supplier=Farnell; ComponentLink6Description: https://datasheet.ciiva.com/5868/aoa0000ce2-5868188.pdf?src-supplier=Farnell; ComponentLink7URL: https://datasheet.ciiva.com/9191/aoa0000ce2-9191896.pdf?src-supplier=Avnet; ComponentLink7Description: https://datasheet.ciiva.com/9191/aoa0000ce2-9191896.pdf?src-supplier=Avnet; ComponentLink8URL: https://datasheet.ciiva.com/30223/aoa0000ce2-30223047.pdf?src-supplier=Onlinecomponents.com; ComponentLink8Description: https://datasheet.ciiva.com/30223/aoa0000ce2-30223047.pdf?src-supplier=Onlinecomponents.com; ComponentLink9URL: https://datasheet.ciiva.com/16763/70260748-16763242.pdf?src-supplier=Allied+Electronics; ComponentLink9Description: https://datasheet.ciiva.com/16763/70260748-16763242.pdf?src-supplier=Allied+Electronics
footprint R_0805 (Chip Resistor, 2-Leads, Body 2.00x1.25mm, IPC Low Density)
pins: 1, 2

## R_0805_24K
designator R?, comment 24K
Fixed Resistor, Metal Glaze/thick Film, 0.125W, 24000ohm, 150V, 1% +/-Tol, 100ppm/Cel, Surface Mount, 0805; Manufacturer: Panasonic; Manufacturer Part Number: ERJ-6ENF2402V; Power: 125mW; Rated Temperature: 70°C; Value: 24kR; Temperature Coefficient: 100ppm/°C; Package Height: 0.6mm; Package Length: 2mm; Package Width: 1.25mm; Reference Standard: AEC-Q200; Supplier: Digikey; Supplier Part Number: P24.0KCCT-ND; RoHS: Yes; Category: Chip SMD Resistors; Stock: 39341; Pricing: 1=0.11, 10=0.053, 50=0.0344, 100=0.0292, 500=0.02058, 1000=0.01792 (USD); Mounting Technology: Surface Mount; Pins: 2; Package Shape: Rectangular; Case/Package: 0805; Terminal Finish: Nickel; Min Operating Temperature: -55°C; Max Operating Temperature: 155°C; Tolerance: 1%; JESD-609 Code: e3; Resistor Type: FIXED RESISTOR; Construction: Rectangular; Package Style: SMTMeter; Packaging: Tape and Reel; Technology: METAL GLAZE/THICK FILM; Termination: Wraparound; Working Voltage: 150V; Reach SVHC Compliant: Yes; RoHS Compliant: Yes; ComponentLink1URL: https://datasheet.ciiva.com:443/pdfs/VipMasterIC/IC/PANA/PANA-S-A0009889626/PANA-S-A0009889626-1.pdf?src-supplier=IHS+Markit; ComponentLink1Description: https://datasheet.ciiva.com:443/pdfs/VipMasterIC/IC/PANA/PANA-S-A0009889626/PANA-S-A0009889626-1.pdf?src-supplier=IHS+Markit; ComponentLink2URL: https://industrial.panasonic.com/cdbs/www-data/pdf/RDM0000/DMM0000COL11.pdf?src-supplier=Digikey; ComponentLink2Description: https://industrial.panasonic.com/cdbs/www-data/pdf/RDM0000/DMM0000COL11.pdf?src-supplier=Digikey; ComponentLink3URL: http://industrial.panasonic.com/www-cgi/jvcr13pz.cgi?E+PZ+3+AOA0002+ERJ6ENF2402V+7+WW?src-supplier=Digikey; ComponentLink3Description: http://industrial.panasonic.com/www-cgi/jvcr13pz.cgi?E+PZ+3+AOA0002+ERJ6ENF2402V+7+WW?src-supplier=Digikey; ComponentLink4URL: https://datasheet.octopart.com/ERJ-6ENF2402V-Panasonic-datasheet-154766169.pdf?src-supplier=Master+Electronics; ComponentLink4Description: https://datasheet.octopart.com/ERJ-6ENF2402V-Panasonic-datasheet-154766169.pdf?src-supplier=Master+Electronics
footprint R_0805 (Chip Resistor, 2-Leads, Body 2.00x1.25mm, IPC Low Density)
pins: 1, 2

## R_0805_24R
designator R?, comment 24R
Fixed Resistor, Metal Glaze/thick Film, 0.125W, 24ohm, 150V, 1% +/-Tol, 100ppm/Cel, Surface Mount, 0805; Manufacturer: Panasonic; Manufacturer Part Number: ERJ-6ENF24R0V; Power: 125mW; Rated Temperature: 70°C; Temperature Coefficient: 100ppm/°C; Package Height: 0.6mm; Package Length: 2mm; Package Width: 1.25mm; Reference Standard: AEC-Q200; Supplier: Digikey; Supplier Part Number: P24.0CCT-ND; RoHS: Yes; Category: Chip SMD Resistors; Stock: 300961; Pricing: 1=0.11, 10=0.053, 50=0.0344, 100=0.0292, 500=0.02058, 1000=0.01792 (USD); Mounting Technology: Surface Mount; Pins: 2; Package Shape: Rectangular; Case/Package: 0805; Terminal Finish: Nickel; Min Operating Temperature: -55°C; Max Operating Temperature: 155°C; Tolerance: 1%; JESD-609 Code: e3; Resistor Type: FIXED RESISTOR; Construction: Rectangular; Package Style: SMTMeter; Packaging: Tape and Reel; Value: 24R; Technology: METAL GLAZE/THICK FILM; Termination: Wraparound; Working Voltage: 150V; Reach SVHC Compliant: Yes; RoHS Compliant: Yes; ComponentLink1URL: https://datasheet.ciiva.com:443/pdfs/VipMasterIC/IC/PANA/PANA-S-A0009889626/PANA-S-A0009889626-1.pdf?src-supplier=IHS+Markit; ComponentLink1Description: https://datasheet.ciiva.com:443/pdfs/VipMasterIC/IC/PANA/PANA-S-A0009889626/PANA-S-A0009889626-1.pdf?src-supplier=IHS+Markit; ComponentLink2URL: https://datasheet.ciiva.com/11821/0900766b80f80784-11821589.pdf?src-supplier=Rs; ComponentLink2Description: https://datasheet.ciiva.com/11821/0900766b80f80784-11821589.pdf?src-supplier=Rs; ComponentLink3URL: https://datasheet.ciiva.com/9191/aoa0000ce2-9191581.pdf?src-supplier=Avnet; ComponentLink3Description: https://datasheet.ciiva.com/9191/aoa0000ce2-9191581.pdf?src-supplier=Avnet; ComponentLink4URL: https://datasheet.ciiva.com/22668/1678782-22668015.pdf?src-supplier=Element14; ComponentLink4Description: https://datasheet.ciiva.com/22668/1678782-22668015.pdf?src-supplier=Element14; ComponentLink5URL: https://datasheet.ciiva.com/46419/1678782-46419896.pdf?src-supplier=Element14; ComponentLink5Description: https://datasheet.ciiva.com/46419/1678782-46419896.pdf?src-supplier=Element14; ComponentLink6URL: https://datasheet.ciiva.com/22739/1678782-22739742.pdf?src-supplier=Element14; ComponentLink6Description: https://datasheet.ciiva.com/22739/1678782-22739742.pdf?src-supplier=Element14
footprint R_0805 (Chip Resistor, 2-Leads, Body 2.00x1.25mm, IPC Low Density)
pins: 1, 2

## R_0805_27K
designator R?, comment 27K
Fixed Resistor, Metal Glaze/thick Film, 0.125W, 27000ohm, 150V, 1% +/-Tol, 100ppm/Cel, Surface Mount, 0805; Manufacturer: Panasonic; Manufacturer Part Number: ERJ-6ENF2702V; Power: 125mW; Rated Temperature: 70°C; Value: 27kR; Temperature Coefficient: 100ppm/°C; Package Height: 0.6mm; Package Length: 2mm; Package Width: 1.25mm; Reference Standard: AEC-Q200; Supplier: Digikey; Supplier Part Number: P27.0KCCT-ND; RoHS: Yes; Category: Chip SMD Resistors; Stock: 26439; Pricing: 1=0.11, 10=0.053, 50=0.0344, 100=0.0292, 500=0.02058, 1000=0.01792 (USD); Mounting Technology: Surface Mount; Pins: 2; Package Shape: Rectangular; Case/Package: 0805; Terminal Finish: Nickel; Min Operating Temperature: -55°C; Max Operating Temperature: 155°C; Tolerance: 1%; JESD-609 Code: e3; Resistor Type: FIXED RESISTOR; Construction: Rectangular; Package Style: SMTMeter; Packaging: Tape and Reel; Technology: METAL GLAZE/THICK FILM; Termination: Wraparound; Working Voltage: 150V; Reach SVHC Compliant: Yes; RoHS Compliant: Yes; ComponentLink1URL: https://datasheet.ciiva.com:443/pdfs/VipMasterIC/IC/PANA/PANA-S-A0009889626/PANA-S-A0009889626-1.pdf?src-supplier=IHS+Markit; ComponentLink1Description: https://datasheet.ciiva.com:443/pdfs/VipMasterIC/IC/PANA/PANA-S-A0009889626/PANA-S-A0009889626-1.pdf?src-supplier=IHS+Markit; ComponentLink2URL: http://www.farnell.com/datasheets/1911175.pdf?src-supplier=Farnell; ComponentLink2Description: http://www.farnell.com/datasheets/1911175.pdf?src-supplier=Farnell
footprint R_0805 (Chip Resistor, 2-Leads, Body 2.00x1.25mm, IPC Low Density)
pins: 1, 2

## R_0805_27R
designator R?, comment 27R
Fixed Resistor, Metal Glaze/thick Film, 0.125W, 27ohm, 150V, 1% +/-Tol, 100ppm/Cel, Surface Mount, 0805; Manufacturer: Panasonic; Manufacturer Part Number: ERJ-6ENF27R0V; Power: 125mW; Rated Temperature: 70°C; Temperature Coefficient: 100ppm/°C; Package Height: 0.6mm; Package Length: 2mm; Package Width: 1.25mm; Reference Standard: AEC-Q200; Supplier: Digikey; Supplier Part Number: P27.0CCT-ND; RoHS: Yes; Category: Chip SMD Resistors; Stock: 59135; Pricing: 1=0.11, 10=0.053, 50=0.0344, 100=0.0292, 500=0.02058, 1000=0.01792 (USD); Mounting Technology: Surface Mount; Pins: 2; Package Shape: Rectangular; Case/Package: 0805; Terminal Finish: Nickel; Min Operating Temperature: -55°C; Max Operating Temperature: 155°C; Tolerance: 1%; JESD-609 Code: e3; Resistor Type: FIXED RESISTOR; Construction: Rectangular; Package Style: SMTMeter; Packaging: Tape and Reel; Value: 27R; Technology: METAL GLAZE/THICK FILM; Termination: Wraparound; Working Voltage: 150V; Reach SVHC Compliant: Yes; RoHS Compliant: Yes; ComponentLink1URL: https://datasheet.ciiva.com:443/pdfs/VipMasterIC/IC/PANA/PANA-S-A0009889626/PANA-S-A0009889626-1.pdf?src-supplier=IHS+Markit; ComponentLink1Description: https://datasheet.ciiva.com:443/pdfs/VipMasterIC/IC/PANA/PANA-S-A0009889626/PANA-S-A0009889626-1.pdf?src-supplier=IHS+Markit; ComponentLink2URL: https://datasheet.ciiva.com/11821/0900766b80f80784-11821579.pdf?src-supplier=Rs; ComponentLink2Description: https://datasheet.ciiva.com/11821/0900766b80f80784-11821579.pdf?src-supplier=Rs; ComponentLink3URL: https://datasheet.ciiva.com/5915/aoa0000ce2-5915340.pdf?src-supplier=Farnell; ComponentLink3Description: https://datasheet.ciiva.com/5915/aoa0000ce2-5915340.pdf?src-supplier=Farnell; ComponentLink4URL: https://datasheet.ciiva.com/9191/aoa0000ce2-9191159.pdf?src-supplier=Avnet; ComponentLink4Description: https://datasheet.ciiva.com/9191/aoa0000ce2-9191159.pdf?src-supplier=Avnet; ComponentLink5URL: https://datasheet.ciiva.com/24038/aoa0000ce2-24038711.pdf?src-supplier=Mouser; ComponentLink5Description: https://datasheet.ciiva.com/24038/aoa0000ce2-24038711.pdf?src-supplier=Mouser; ComponentLink6URL: https://datasheet.ciiva.com/16787/70260748-16787737.pdf?src-supplier=Allied+Electronics; ComponentLink6Description: https://datasheet.ciiva.com/16787/70260748-16787737.pdf?src-supplier=Allied+Electronics; ComponentLink7URL: https://datasheet.ciiva.com/22681/1678782-22681197.pdf?src-supplier=Element14; ComponentLink7Description: https://datasheet.ciiva.com/22681/1678782-22681197.pdf?src-supplier=Element14; ComponentLink8URL: https://datasheet.ciiva.com/22739/1678782-22739801.pdf?src-supplier=Element14; ComponentLink8Description: https://datasheet.ciiva.com/22739/1678782-22739801.pdf?src-supplier=Element14
footprint R_0805 (Chip Resistor, 2-Leads, Body 2.00x1.25mm, IPC Low Density)
pins: 1, 2